# EAGLE library part LM2917 (library BME_Components)
Frequency to Voltage Converter, 8-pin MDIP
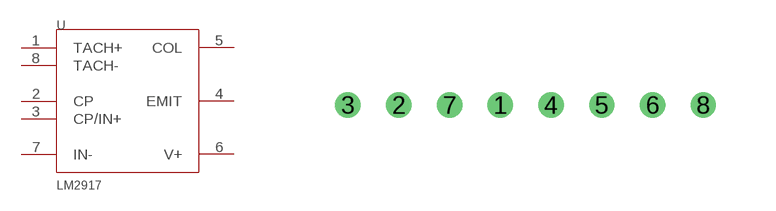
[diagram p8: symbol with the pads of LM2917_PDIP-8; footprint LM2917_PDIP-8]

Designator prefix U

## LM2917LM2917_LM2917_PDIP-8 (CODE_JEDEC: MS-001-BA; COMPTYPE: MiscPower; DATASHEETVERSION: Dec-2008; MANUFACTURER: National Semiconductor; PACKAGEDESCRIPTION: MDIP, .365 x .250 x .130in, 8 Lead, .100in Pitch; PACKAGEREFERENCE: N08E; PACKAGETOPMARKING: NSUZXYTTE#*LM*2917N-8; PACKAGEVERSION: revG, May-2006; PINCOUNT: 8; POWERWISE: N; ROHS: N)  [LM2917_PDIP-8]
1  TACH+  in
2  CP  pas
3  CP/IN+  pas
4  EMIT  pas
5  COL  pas
6  V+  pwr
7  IN-  in
8  TACH-  in

## Footprint LM2917_PDIP-8 (pad centres in mm)
drill 0.127 pad 0.254 round: 1 3.81,0; 2 1.27,0; 3 0,0; 4 5.08,0; 5 6.35,0; 6 7.62,0; 7 2.54,0; 8 8.89,0